# EAGLE library part IM06GR (library IM06GR)
Body Features: Product Weight .026 OZ | Insulation Special Features 2500V Initial Surge Withstand Voltage between Contacts & Coil | Product Weight .75 G | Contact Features: Contact Special Features Bifurcated/Twin Contacts | Contact Number of Poles 2 | Contact Current Class 0 2 AMP | Contact Current Rating (Max) 2 AMP | Contact Arrangement 2 Form C (2 CO) | Contact Base Material PdRu+Au | Contact Plating Material Gold | Dimensions: Product Width 6 MM | Product Length .393 INCH | Product Height 5.65 MM | Source: Datasheet <https://www.te.com/commerce/DocumentDelivery/DDEController?Action=srchrtrv&DocNm=108-98001&DocType=Data Sheet&DocLang=English&PartCntxt=2-1462037-3&DocFormat=pdf>
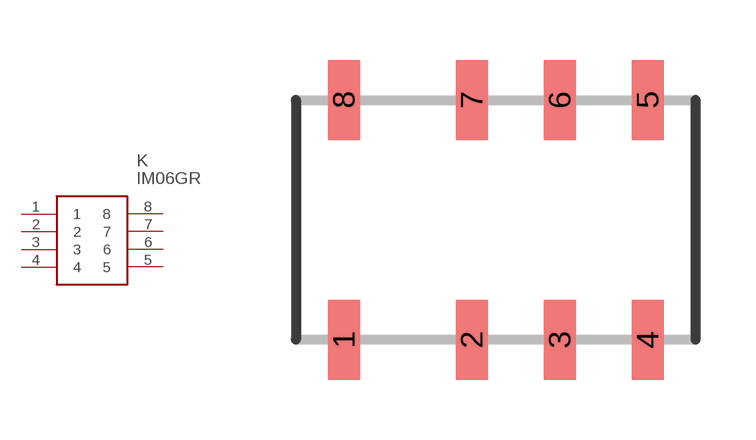
[diagram p0: symbol with the pads of IM06GR; footprint IM06GR]

Designator prefix K

## IM06GR (Arrow_Part_Number: IM06GR; Arrow_Price-Stock: https://www.arrow.com/en/products/im06gr/te-connectivity?region=nac; Description: Body Features: Product Weight .026 OZ | Insulation Special Features 2500V Initial Surge Withstand Voltage between Contacts & Coil | Product Weight .75 G | Contact Features: Contact Special Features Bifurcated/Twin Contacts | Contact Number of Poles 2 | Contact Current Class 0 2 AMP | Contact Current Rating (Max) 2 AMP | Contact Arrangement 2 Form C (2 CO) | Contact Base Material PdRu+Au | Contact Plating Material Gold | Dimensions: Product Width 6 MM | Product Length .393 INCH | Product Height 5.65 MM |; Height: mm; Manufacturer_Name: TE Connectivity; Manufacturer_Part_Number: IM06GR; Mouser_Part_Number: 655-IM06GR; Mouser_Price-Stock: https://www.mouser.co.uk/ProductDetail/TE-Connectivity/IM06GR?qs=CYMZr0Hm9rcOFFXIittlkQ%3D%3D)  [IM06GR]
1  1
2  2
3  3
4  4
5  5
6  6
7  7
8  8

## Footprint IM06GR (pad centres in mm)
IM06GR
smd 0.8 x 2: 1 -3.8,-3; 2 -0.6,-3; 3 1.6,-3; 4 3.8,-3; 5 3.8,3; 6 1.6,3; 7 -0.6,3; 8 -3.8,3